# Altium schematic symbol library SCH - POWER - SWITCHMODE - TI TPS61161A_DRV_6.SchLib: 1 symbol
Pins are listed as number, name and electrical type; pins without a type are passive.

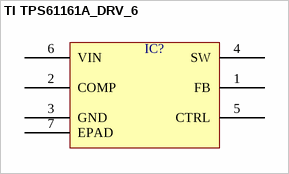
[diagram p0: symbol TI TPS61161A_DRV_6]

## TI TPS61161A_DRV_6
designator IC?  (value not drawn)
pins: 1 FB, 2 COMP, 3 GND, 4 SW, 5 CTRL, 6 VIN, 7 EPAD